# EAGLE library part MMA8451 (library SlideSentinel)
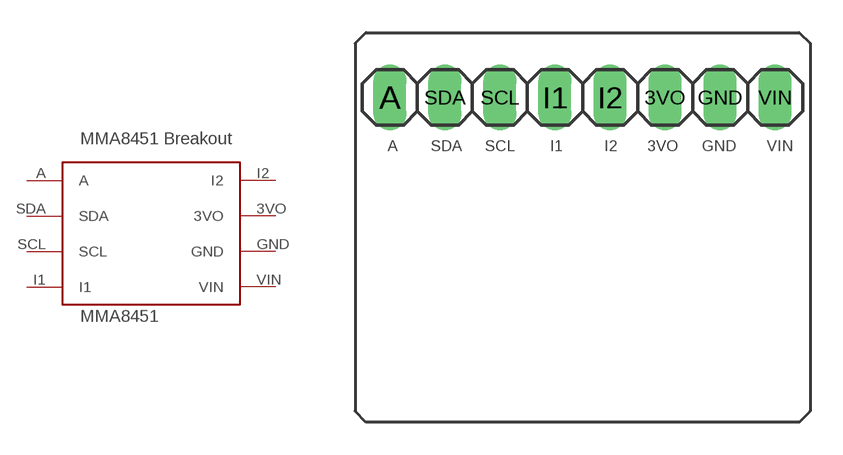
[diagram p5: symbol with the pads of MMA8451; footprint MMA8451]

Designator prefix -

## MMA8451  [MMA8451]
3VO  3VO
A  A
GND  GND
I1  I1
I2  I2
SCL  SCL
SDA  SDA
VIN  VIN

## Footprint MMA8451 (pad centres in mm)
PIN HEADER
drill 1.016 long: 3VO 3.81,0; A -8.89,0; GND 6.35,0; I1 -1.27,0; I2 1.27,0; SCL -3.81,0; SDA -6.35,0; VIN 8.89,0